# Altium footprint library MLACHL_L.PCBLIB: 254 footprints (part 8 of 16)
Each footprint in its own frame and in the unit in brackets; x right, y up, seen from the top. Pads: shape width x height; smd on the part's side, far side on the other; paste and mask are expansions set on the pad; w line width, h text height; cw(c..) or ccw(c..) is an arc to the next point about the centre after c.
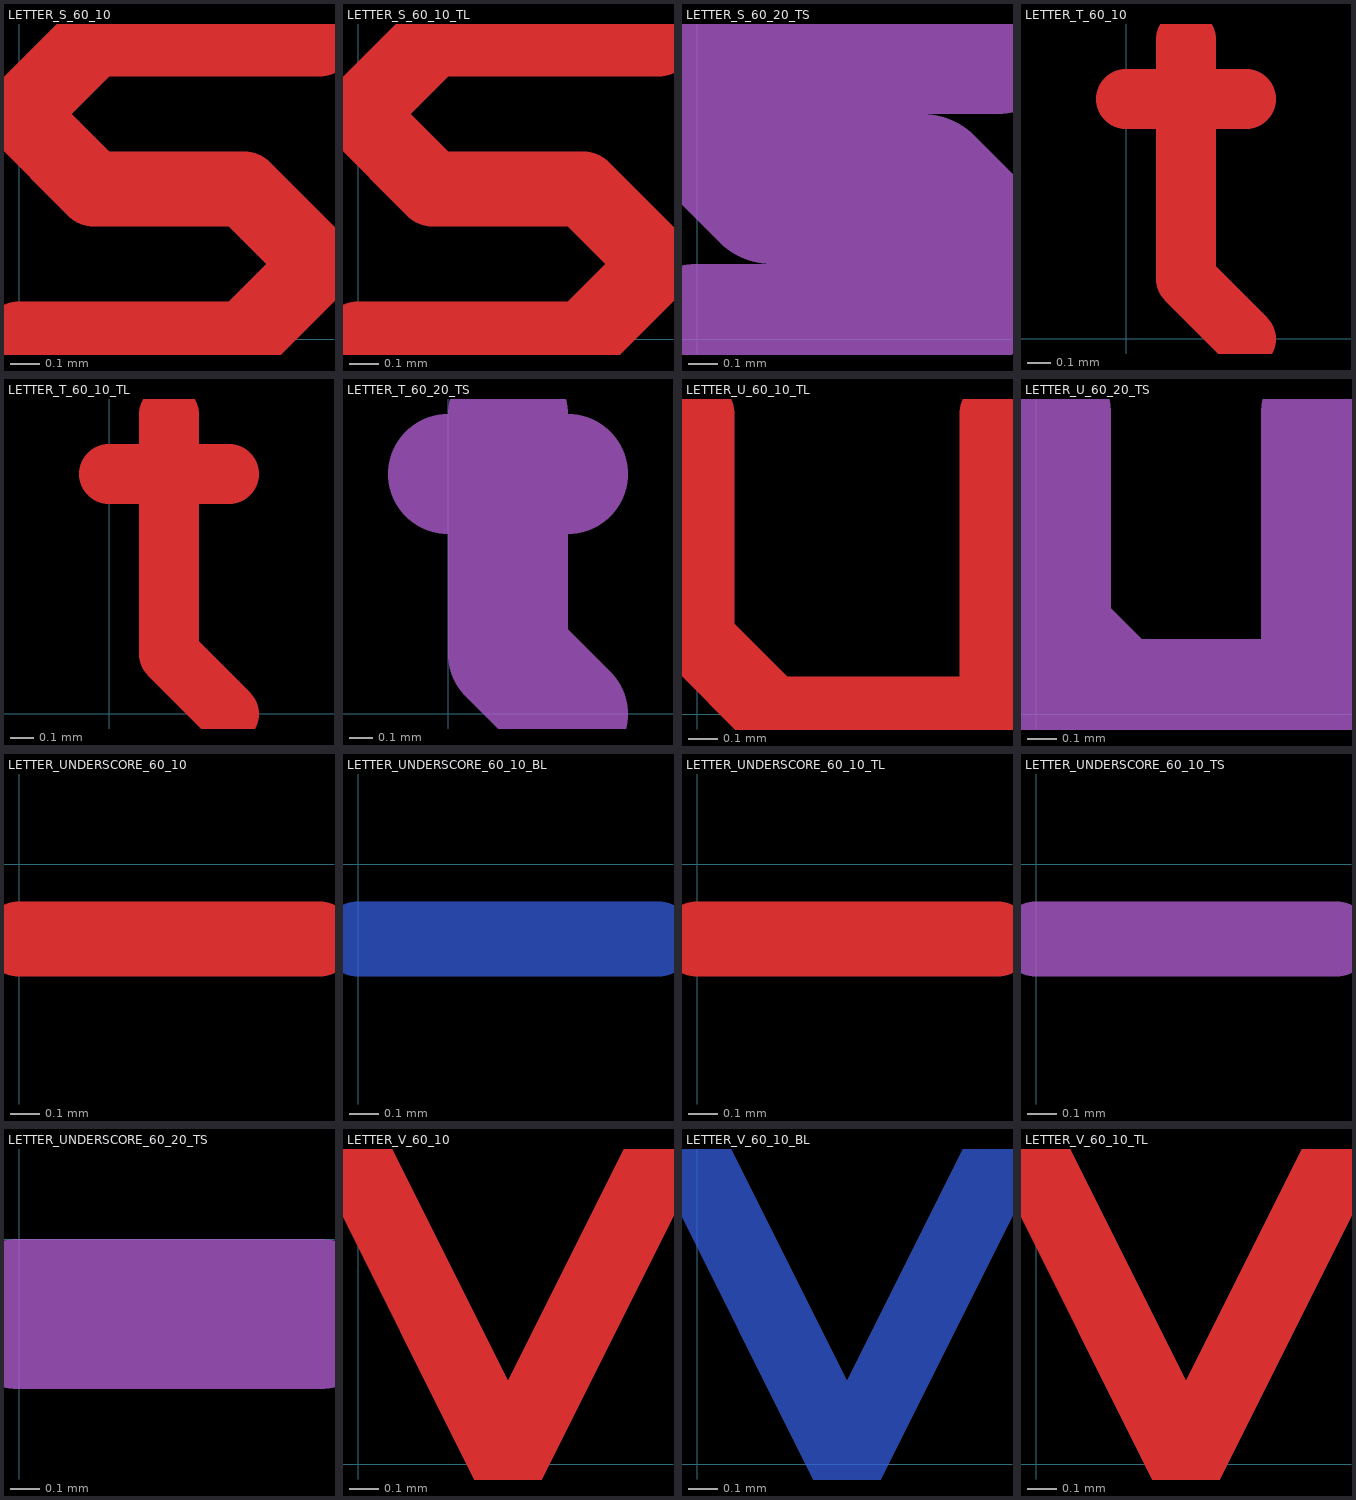
[diagram p7: the footprints below, top view; thin cyan lines are the x and y axes]

## LETTER_S_60_10 [mm]
TopLayer:
  lines w0.254: 0,0 0.762,0 1.016,0.254 0.762,0.508 0.254,0.508 0,0.762 0.254,1.016 1.016,1.016
TopSolder:
  lines w0.508: 0,0 0.762,0 1.016,0.254 0.762,0.508 0.254,0.508 0,0.762 0.254,1.016 1.016,1.016
3D body: height 0.2, standoff 0, extent -0.127,-0.127 1.143,1.143

## LETTER_S_60_10_TL [mm]
TopLayer:
  lines w0.254: 0,0 0.762,0 1.016,0.254 0.762,0.508 0.254,0.508 0,0.762 0.254,1.016 1.016,1.016
3D body: height 0.2, standoff 0, extent -0.127,-0.127 1.143,1.143

## LETTER_S_60_20_TS [mm]
TopSolder:
  lines w0.508: 0,0 0.762,0 1.016,0.254 0.762,0.508 0.254,0.508 0,0.762 0.254,1.016 1.016,1.016

## LETTER_T_60_10 [mm]
TopLayer:
  lines w0.254: 0,1.016 0.508,1.016 ; 0.254,1.27 0.254,0.254 0.508,0
TopSolder:
  lines w0.508: 0,1.016 0.508,1.016 ; 0.254,1.27 0.254,0.254 0.508,0
3D body: height 0.3, standoff 0, extent -0.127,-0.126 0.633,1.397

## LETTER_T_60_10_TL [mm]
TopLayer:
  lines w0.254: 0,1.016 0.508,1.016 ; 0.254,1.27 0.254,0.254 0.508,0
3D body: height 0.3, standoff 0, extent -0.127,-0.126 0.633,1.397

## LETTER_T_60_20_TS [mm]
TopSolder:
  lines w0.508: 0,1.016 0.508,1.016 ; 0.254,1.27 0.254,0.254 0.508,0

## LETTER_U_60_10_TL [mm]
TopLayer:
  lines w0.254: 0,1.016 0,0.254 0.254,0 1.016,0 1.016,1.016
3D body: height 0.3, standoff 0, extent -0.127,-0.127 1.143,1.143

## LETTER_U_60_20_TS [mm]
TopSolder:
  lines w0.508: 0,1.016 0,0.254 0.254,0 1.016,0 1.016,1.016

## LETTER_UNDERSCORE_60_10 [mm]
TopLayer:
  lines w0.254: 0,-0.254 1.016,-0.254
TopSolder:
  lines w0.508: 0,-0.254 1.016,-0.254
3D body: height 0.3, standoff 0, extent -0.127,-0.381 1.143,-0.127

## LETTER_UNDERSCORE_60_10_BL [mm]
BottomLayer:
  lines w0.254: 0,-0.254 1.016,-0.254

## LETTER_UNDERSCORE_60_10_TL [mm]
TopLayer:
  lines w0.254: 0,-0.254 1.016,-0.254
3D body: height 0.3, standoff 0, extent -0.127,-0.381 1.143,-0.127

## LETTER_UNDERSCORE_60_10_TS [mm]
TopSolder:
  lines w0.254: 0,-0.254 1.016,-0.254

## LETTER_UNDERSCORE_60_20_TS [mm]
TopSolder:
  lines w0.508: 0,-0.254 1.016,-0.254

## LETTER_V_60_10 [mm]
TopLayer:
  lines w0.254: 0,1.016 0.508,0 1.016,1.016
TopSolder:
  lines w0.508: 0,1.016 0.508,0 1.016,1.016
3D body: height 0.3, standoff 0, extent -0.127,-0.127 1.143,1.143

## LETTER_V_60_10_BL [mm]
BottomLayer:
  lines w0.254: 0,1.016 0.508,0 1.016,1.016

## LETTER_V_60_10_TL [mm]
TopLayer:
  lines w0.254: 0,1.016 0.508,0 1.016,1.016
3D body: height 0.3, standoff 0, extent -0.127,-0.127 1.143,1.143